# Altium footprint library MH-SINGEL.PcbLib: 23 footprints (part 2 of 2)
Each footprint in its own frame and in the unit in brackets; x right, y up, seen from the top. Pads: shape width x height; smd on the part's side, far side on the other; paste and mask are expansions set on the pad; w line width, h text height; cw(c..) or ccw(c..) is an arc to the next point about the centre after c.
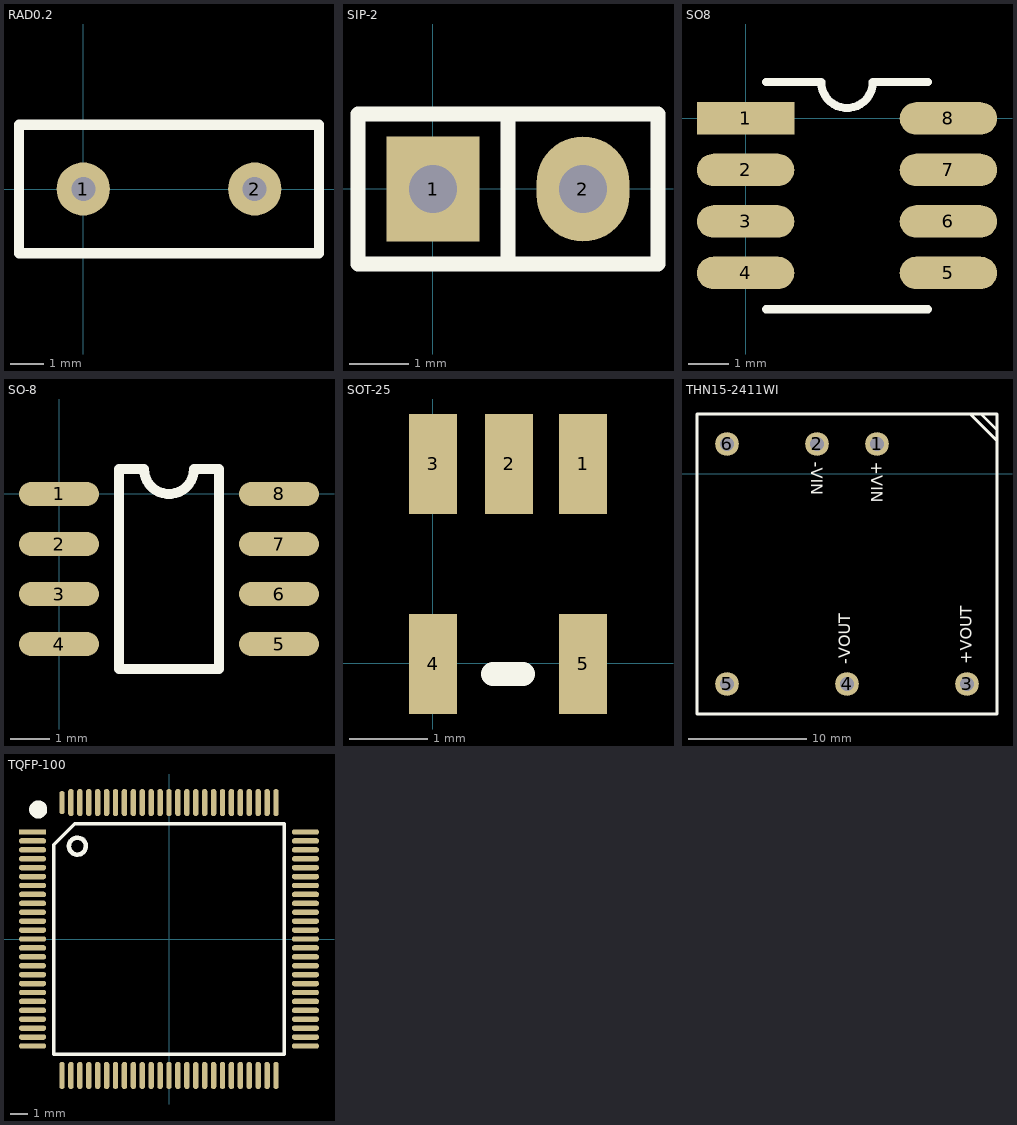
[diagram p1: the footprints below, top view; thin cyan lines are the x and y axes]

## RAD0.2 [mil]
pads (2):
  round 62 hole 28: 1(0,0) 2(200,0)
Top Overlay:
  lines w12: -75,-75 275,-75 275,75 -75,75 -75,-75

## SIP-2 [mil]
pads (2):
  rect 62x70 hole 32: 1(0,0)
  oval 62x70 hole 32: 2(100,0)
Top Overlay:
  lines w10: 50,-50 50,50 ; -50,-50 -50,50 150,50 150,-50 -50,-50

## SO8 [mm]
pads (8):
  rect 2.4x0.8 smd: 1(0,0)
  oval 2.4x0.8 smd: 2(0,-1.27) 3(0,-2.54) 4(0,-3.81) 5(5,-3.81) 6(5,-2.54) 7(5,-1.27) 8(5,0)
Top Overlay:
  lines w0.2: 0.5,-4.705 4.5,-4.705 ; 0.5,0.895 1.865,0.895 ; 1.865,0.895 ccw(c2.5,0.895) 3.135,0.895 ; 3.135,0.895 4.5,0.895

## SO-8 [mil]
pads (8):
  oval 80x24 smd: 1(-0.14,-0.18) 2(-0.14,-50.18) 3(-0.14,-100.18) 4(-0.14,-150.18) 5(219.86,-150.18) 6(219.86,-100.18) 7(219.86,-50.18) 8(219.86,-0.18)
Top Overlay:
  lines w10: 59.86,-175.18 59.86,24.82 84.86,24.82 ccw(c109.86,24.82) 134.86,24.82 159.86,24.82 159.86,-175.18 59.86,-175.18

## SOT-25 [mil]
pads (5):
  rect 24x50 smd: 1(75.24,99.55) 2(38.24,99.55) 3(0.24,99.55) 4(0.24,-0.45) 5(75.24,-0.45)
Top Overlay:
  lines w12: 30.24,-5.45 45.24,-5.45

## THN15-2411WI [mm]
pads (6):
  round 2 hole 1.2: 1(-13.081,2.54) 2(-18.161,2.54) 3(-5.461,-17.78) 4(-15.621,-17.78) 5(-25.781,-17.78) 6(-25.781,2.54)
Top Overlay:
  lines w0.254: -5.182,5.08 -2.921,2.819 ; -4.267,5.08 -2.921,3.734 ; -28.321,-20.32 -28.321,5.08 -2.921,5.08 -2.921,-20.32 -28.321,-20.32
  text "-VOUT" at -15.367,-16.129 h1
  text "+VOUT" at -5.08,-16.129 h1
  text "+VIN" at -13.589,1.016 h1
  text "-VIN" at -18.669,1.016 h1

## TQFP-100 [mil]
pads (100):
  rect 60x12 smd: 1(-301.18,236.22)
  oval 60x12 smd: 2(-301.18,216.54) 3(-301.18,196.85) 4(-301.18,177.17) 5(-301.18,157.48) 6(-301.18,137.8) 7(-301.18,118.11) 8(-301.18,98.43) 9(-301.18,78.74) 10(-301.18,59.06) 11(-301.18,39.37) 12(-301.18,19.69) 13(-301.18,0) 14(-301.18,-19.68) 15(-301.18,-39.37) 16(-301.18,-59.05) 17(-301.18,-78.74) 18(-301.18,-98.42) 19(-301.18,-118.11) 20(-301.18,-137.79) 21(-301.18,-157.48) 22(-301.18,-177.16) 23(-301.18,-196.85) 24(-301.18,-216.53) 25(-301.18,-236.22) 51(301.18,-236.22) 52(301.18,-216.53) 53(301.18,-196.85) 54(301.18,-177.16) 55(301.18,-157.48) 56(301.18,-137.79) 57(301.18,-118.11) 58(301.18,-98.42) 59(301.18,-78.74) 60(301.18,-59.05) 61(301.18,-39.37) 62(301.18,-19.68) 63(301.18,0) 64(301.18,19.69) 65(301.18,39.37) 66(301.18,59.06) 67(301.18,78.74) 68(301.18,98.43) 69(301.18,118.11) 70(301.18,137.8) 71(301.18,157.48) 72(301.18,177.17) 73(301.18,196.85) 74(301.18,216.54) 75(301.18,236.22)
  oval 12x60 smd: 26(-236.22,-301.18) 27(-216.53,-301.18) 28(-196.85,-301.18) 29(-177.16,-301.18) 30(-157.48,-301.18) 31(-137.79,-301.18) 32(-118.11,-301.18) 33(-98.42,-301.18) 34(-78.74,-301.18) 35(-59.05,-301.18) 36(-39.37,-301.18) 37(-19.68,-301.18) 38(0,-301.18) 39(19.69,-301.18) 40(39.37,-301.18) 41(59.06,-301.18) 42(78.74,-301.18) 43(98.43,-301.18) 44(118.11,-301.18) 45(137.8,-301.18) 46(157.48,-301.18) 47(177.17,-301.18) 48(196.85,-301.18) 49(216.54,-301.18) 50(236.22,-301.18) 76(236.22,301.18) 77(216.54,301.18) 78(196.85,301.18) 79(177.17,301.18) 80(157.48,301.18) 81(137.8,301.18) 82(118.11,301.18) 83(98.43,301.18) 84(78.74,301.18) 85(59.06,301.18) 86(39.37,301.18) 87(19.69,301.18) 88(0,301.18) 89(-19.68,301.18) 90(-39.37,301.18) 91(-59.05,301.18) 92(-78.74,301.18) 93(-98.42,301.18) 94(-118.11,301.18) 95(-137.79,301.18) 96(-157.48,301.18) 97(-177.16,301.18) 98(-196.85,301.18) 99(-216.53,301.18)
  oval 12x51.18 smd: 100(-236.22,301.18)
Top Overlay:
  lines w7.87: -254.53,-254.53 -254.53,207.87 -207.87,254.53 254.53,254.53 254.53,-254.53 -254.53,-254.53
  lines w10: -185.03,212.07 ccw(c-202.27,204.89) -185,212
  lines w20: -279.04,287.33 ccw(c-288.86,286.1) -279,287